# EAGLE library part SMD_BBC_EDGE (library microbit)
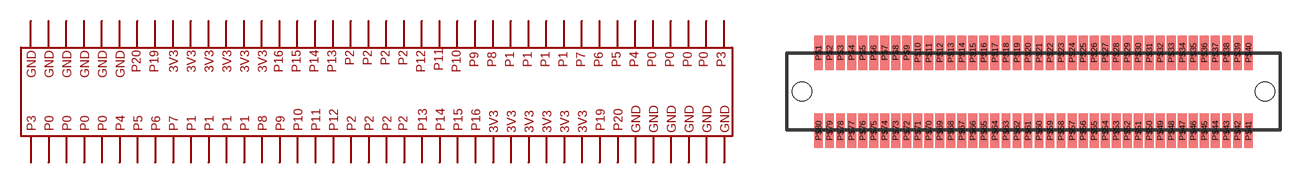
[diagram p0: symbol with the pads of SMD_BBC_EDGE; footprint SMD_BBC_EDGE]

Designator prefix BBC

## SMD_BBC_EDGE  [SMD_BBC_EDGE]
P$1  P$1
P$2  P$2
P$3  P$3
P$4  P$4
P$5  P$5
P$6  P$6
P$7  P$7
P$8  P$8
P$9  P$9
P$10  P$10
P$11  P$11
P$12  P$12
P$13  P$13
P$14  P$14
P$15  P$15
P$16  P$16
P$17  P$17
P$18  P$18
P$19  P$19
P$20  P$20
P$21  P$21
P$22  P$22
P$23  P$23
P$24  P$24
P$25  P$25
P$26  P$26
P$27  P$27
P$28  P$28
P$29  P$29
P$30  P$30
P$31  P$31
P$32  P$32
P$33  P$33
P$34  P$34
P$35  P$35
P$36  P$36
P$37  P$37
P$38  P$38
P$39  P$39
P$40  P$40
P$41  P$41
P$42  P$42
P$43  P$43
P$44  P$44
P$45  P$45
P$46  P$46
P$47  P$47
P$48  P$48
P$49  P$49
P$50  P$50
P$51  P$51
P$52  P$52
P$53  P$53
P$54  P$54
P$55  P$55
P$56  P$56
P$57  P$57
P$58  P$58
P$59  P$59
P$60  P$60
P$61  P$61
P$62  P$62
P$63  P$63
P$64  P$64
P$65  P$65
P$66  P$66
P$67  P$67
P$68  P$68
P$69  P$69
P$70  P$70
P$71  P$71
P$72  P$72
P$73  P$73
P$74  P$74
P$75  P$75
P$76  P$76
P$77  P$77
P$78  P$78
P$79  P$79
P$80  P$80

## Footprint SMD_BBC_EDGE (pad centres in mm)
smd 1.02 x 4: P$1 -24.765,4.5; P$2 -23.495,4.5; P$3 -22.225,4.5; P$4 -20.955,4.5; P$5 -19.685,4.5; P$6 -18.415,4.5; P$7 -17.145,4.5; P$8 -15.875,4.5; P$9 -14.605,4.5; P$10 -13.335,4.5; P$11 -12.065,4.5; P$12 -10.795,4.5; P$13 -9.525,4.5; P$14 -8.255,4.5; P$15 -6.985,4.5; P$16 -5.715,4.5; P$17 -4.445,4.5; P$18 -3.175,4.5; P$19 -1.905,4.5; P$20 -0.635,4.5; P$21 0.635,4.5; P$22 1.905,4.5; P$23 3.175,4.5; P$24 4.445,4.5; P$25 5.715,4.5; P$26 6.985,4.5; P$27 8.255,4.5; P$28 9.525,4.5; P$29 10.795,4.5; P$30 12.065,4.5; P$31 13.335,4.5; P$32 14.605,4.5; P$33 15.875,4.5; P$34 17.145,4.5; P$35 18.415,4.5; P$36 19.685,4.5; P$37 20.955,4.5; P$38 22.225,4.5; P$39 23.495,4.5; P$40 24.765,4.5; P$41 24.765,-4.5; P$42 23.495,-4.5; P$43 22.225,-4.5; P$44 20.955,-4.5; P$45 19.685,-4.5; P$46 18.415,-4.5; P$47 17.145,-4.5; P$48 15.875,-4.5; P$49 14.605,-4.5; P$50 13.335,-4.5; P$51 12.065,-4.5; P$52 10.795,-4.5; P$53 9.525,-4.5; P$54 8.255,-4.5; P$55 6.985,-4.5; P$56 5.715,-4.5; P$57 4.445,-4.5; P$58 3.175,-4.5; P$59 1.905,-4.5; P$60 0.635,-4.5; P$61 -0.635,-4.5; P$62 -1.905,-4.5; P$63 -3.175,-4.5; P$64 -4.445,-4.5; P$65 -5.715,-4.5; P$66 -6.985,-4.5; P$67 -8.255,-4.5; P$68 -9.525,-4.5; P$69 -10.795,-4.5; P$70 -12.065,-4.5; P$71 -13.335,-4.5; P$72 -14.605,-4.5; P$73 -15.875,-4.5; P$74 -17.145,-4.5; P$75 -18.415,-4.5; P$76 -19.685,-4.5; P$77 -20.955,-4.5; P$78 -22.225,-4.5; P$79 -23.495,-4.5; P$80 -24.765,-4.5
hole 2.2 at -26.67,0
hole 2.2 at 26.67,0